# Altium schematic symbol library Base_Symbols.SchLib: 35 symbols
Pins are listed as number, name and electrical type; pins without a type are passive.

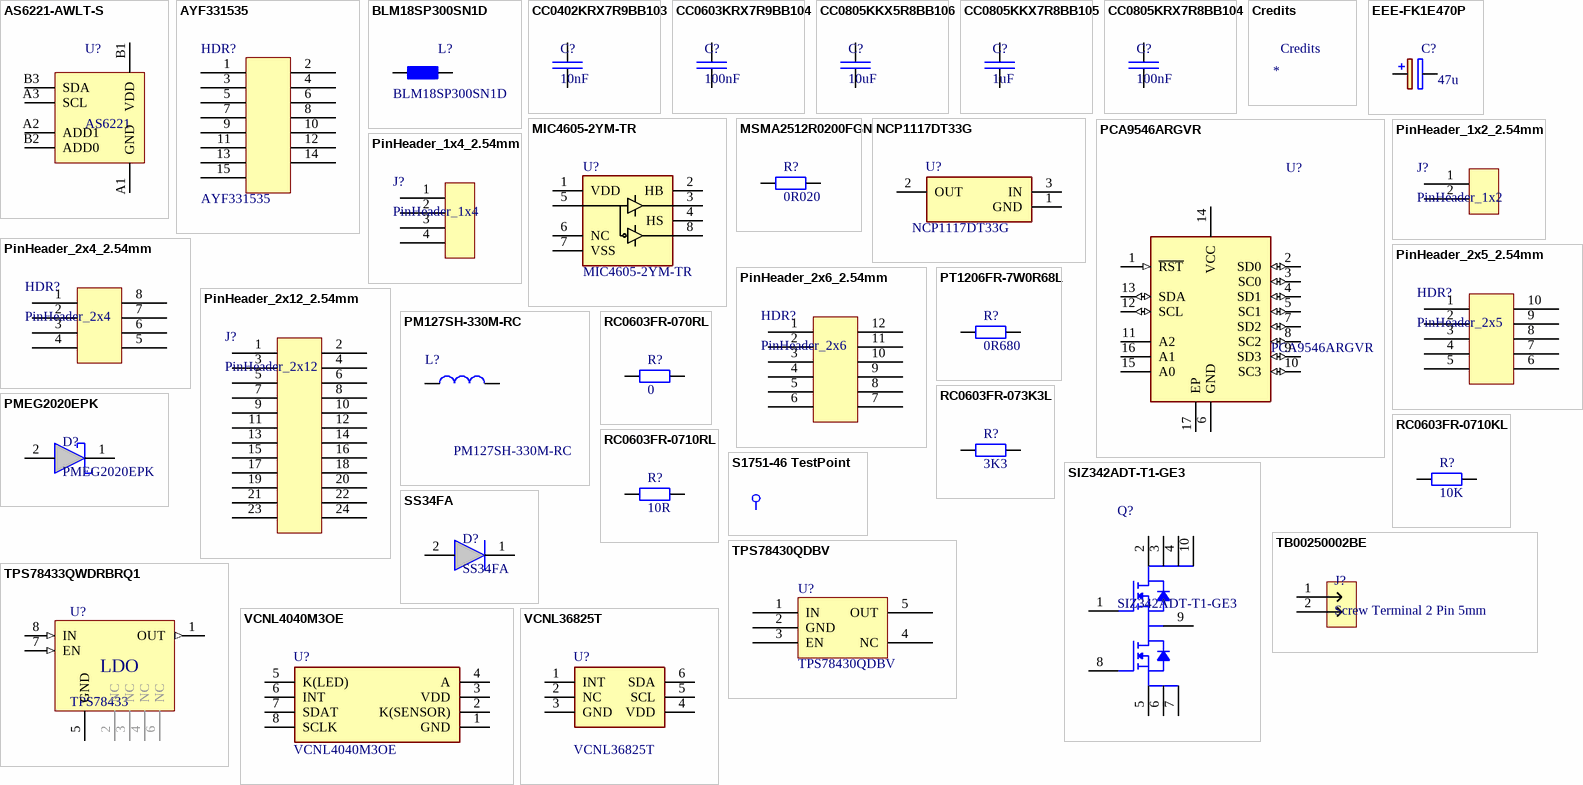
[diagram p0: symbols AS6221-AWLT-S to VCNL36825T]

## AS6221-AWLT-S
designator U?, comment AS6221
AS6221 Temperature Sensor Digital -40°C ~ 125°C 16b 6-WLCSP (1.5x1.03); Supplier 1: Mouser; Supplier Part Number 1: 985-AS6221-AWLT-S; Supplier 2: Digikey; Supplier Part Number 2: 4991-AS6221-AWLT-SCT-ND; Supplier 3: Arrow Electronics; Supplier Part Number 3: AS6221-AWLT-S; Supplier 4: Future Electronics; Supplier Part Number 4: 1136541; Supplier 5: Digikey; Supplier Part Number 5: 4991-AS6221-AWLT-SDKR-ND; Supplier 6: Digikey; Supplier Part Number 6: 4991-AS6221-AWLT-STR-ND; Supplier 7: Avnet; Supplier Part Number 7: Q65114A1149
footprint AS6221_BGA
footprint AS6221_BGA_LargePads (BGA, 6-Leads, Body 1.50x1.02mmx0.55mm, Pitch 0.40mm)
pins: A1 GND, A2 ADD1, A3 SCL, B1 VDD, B2 ADD0, B3 SDA

## AYF331535
designator HDR?
AYF331535 FFC & FPC-Steckverbinder CONNECTOR SURFACE MOUNT; Supplier 1: Mouser; Supplier Part Number 1: 769-AYF331535; Supplier 2: Digi-Key; Supplier Part Number 2: 255-3053-1-ND
footprint AYF331535 (AYF331535 FFC & FPC-Steckverbinder CONNECTOR SURFACE MOUNT)
footprint AYF331535 _Reverse
pins: 1, 2, 3, 4, 5, 6, 7, 8, 9, 10, 11, 12, 13, 14, 15

## BLM18SP300SN1D
designator L?
Ferrite Beads 0603 30ohm 10% 6A; Manufacturer_Name: Murata Electronics; Geometry.Height: 0.95mm; Mouser Part Number: 81-BLM18SP300SN1D; Mouser Price/Stock: https://www.mouser.co.uk/ProductDetail/Murata-Electronics/BLM18SP300SN1D?qs=W%2FMpXkg%252BdQ4o%252BOP%252B6m8FYA%3D%3D; Manufacturer_Part_Number: BLM18SP300SN1D; Datasheet Link: http://www.murata.com/~/media/webrenewal/support/library/catalog/products/emc/emifil/c31e.ashx?la=en-gb; Supplier 1: Digi-Key; Supplier Part Number 1: 490-BLM18SP300SN1DCT-ND; Supplier 2: Digi-Key; Supplier Part Number 2: 490-BLM18SP300SN1DDKR-ND; Supplier 3: Mouser; Supplier Part Number 3: 81-BLM18SP300SN1D
footprint Chip2PinSM127P600-8N
pins: 1, 2

## CC0402KRX7R9BB103
designator C?, comment 10nF
CAP 10nF SM0402 X7R 50V YAGEO CC2; Manufacturer Part Number: CC0603KRX7R9BB103; Tolerance (%): 10; Voltage Rating (Volts): 50; Category: Capacitor; Manufacturer: Yageo; Package: 0603; Value: 10nF; ComponentLink1URL: http://www.yageo.com; ComponentLink1Description: Manufacturer Website; Supplier 1: Farnell; Supplier Part Number 1: 3369167; Supplier 2: Mouser; Supplier Part Number 2: 603-CC402KRX7R9BB103; Supplier 3: DigiKey; Supplier Part Number 3: 311-1349-1-ND
footprint CAP_SM0402_YAGEOCC2_N (Capacitor, Yageo CC Class2, SM0402, IPC Medium Density)
pins: 1, 2

## CC0603KRX7R9BB104
designator C?, comment 100nF
CAP 100nF SM0603 X7R 50V YAGEO CC2; Manufacturer Part Number: CC0603KRX7R9BB104; Tolerance (%): 10; Voltage Rating (Volts): 50; Category: Capacitor; Manufacturer: Yageo; Package: 0603; Value: 100nF; ComponentLink1URL: http://www.yageo.com; ComponentLink1Description: Manufacturer Website; Supplier 1: Mouser; Supplier Part Number 1: 603-CC603KRX7R9BB104; Supplier 2: Future Electronics; Supplier Part Number 2: 3035896; Supplier 3: Future Electronics; Supplier Part Number 3: 9017302; Supplier 4: Arrow Electronics; Supplier Part Number 4: CC0603KRX7R9BB104; Supplier 5: Rs; Supplier Part Number 5: 6698767; Supplier 6: Avnet; Supplier Part Number 6: 68R4788; Supplier 7: Digikey; Supplier Part Number 7: 311-1344-1-ND; Supplier 8: Digikey; Supplier Part Number 8: 311-1344-6-ND
footprint CAP_SM0603_YAGEOCC2_N (Capacitor, Yageo CC Class2, SM0603, IPC Medium Density)
pins: 1, 2

## CC0805KKX5R8BB106
designator C?, comment 10uF
CAP 10uF SM0805 X5R 16V YAGEO CC2; Manufacturer Part Number: CC0805KKX7R8BB225; Tolerance (%): 10; Voltage Rating (Volts): 25; Category: Capacitor; Manufacturer: Yageo; Package: 0805; Value: 10uF; ComponentLink1URL: http://www.yageo.com; ComponentLink1Description: Manufacturer Website; Supplier 1: Rs; Supplier Part Number 1: 1988078; Supplier 2: Digikey; Supplier Part Number 2: 311-1869-1-ND; Supplier 3: Digikey; Supplier Part Number 3: 311-1869-6-ND; Supplier 4: Farnell; Supplier Part Number 4: 3369293; Supplier 5: Mouser; Supplier Part Number 5: 603-CC805KKX5R8BB106
footprint CAP_SM0805_YAGEOCC2_N (Capacitor, Yageo CC Class2, SM0805, IPC Medium Density)
pins: 1, 2

## CC0805KKX7R8BB105
designator C?, comment 1uF
CAP 1uF SM0805 X7R 25V YAGEO CC2; Manufacturer Part Number: CC0805KKX7R8BB105; Tolerance (%): 10; Voltage Rating (Volts): 25; Category: Capacitor; Manufacturer: Yageo; Package: 0805; Value: 1uF; ComponentLink1URL: http://www.yageo.com; ComponentLink1Description: Manufacturer Website; Supplier 1: Farnell; Supplier Part Number 1: 1458903; Supplier 2: Digikey; Supplier Part Number 2: 311-1456-1-ND; Supplier 3: Mouser; Supplier Part Number 3: 603-CC805KKX7R8BB105; Supplier 4: Future Electronics; Supplier Part Number 4: 7716954; Supplier 5: Arrow Electronics; Supplier Part Number 5: CC0805KKX7R8BB105; Supplier 6: Rs; Supplier Part Number 6: 1988104; Supplier 7: Digikey; Supplier Part Number 7: 311-1456-6-ND
footprint CAP_SM0805_YAGEOCC2_N (Capacitor, Yageo CC Class2, SM0805, IPC Medium Density)
pins: 1, 2

## CC0805KRX7R8BB104
designator C?, comment 100nF
CAP 100nF SM0805 X7R 25V YAGEO CC2; Manufacturer Part Number: CC0805KRX7R8BB104; Tolerance (%): 10; Voltage Rating (Volts): 25; Category: Capacitor; Manufacturer: Yageo; Package: 0805; Value: 100nF; ComponentLink1URL: http://www.yageo.com; ComponentLink1Description: Manufacturer Website; Supplier 1: Farnell; Supplier Part Number 1: 644249; Supplier 2: Digikey; Supplier Part Number 2: 311-1141-1-ND; Supplier 3: Mouser; Supplier Part Number 3: 603-CC805KRX7R8BB104; Supplier 4: Future Electronics; Supplier Part Number 4: 8768756; Supplier 5: Rs; Supplier Part Number 5: 1988138P; Supplier 6: Digikey; Supplier Part Number 6: 311-1141-6-ND; Supplier 7: Newark; Supplier Part Number 7: 08WX8799
footprint CAP_SM0805_YAGEOCC2_N (Capacitor, Yageo CC Class2, SM0805, IPC Medium Density)
pins: 1, 2

## Credits
designator Credit
footprint Credits
footprint Credits_Cu
footprint Credits_TO
footprint CREDITS_CU+TS
footprint CREDITS_CU+TS_SIGNED

## EEE-FK1E470P
designator C?, comment 47u
Aluminium Electrolytic Capacitors - SMD 47uF 25V; Value: 47u; Supplier 1: Mouser; Supplier Part Number 1: 667-EEE-FK1E470P; Supplier 2: Digi-Key; Supplier Part Number 2: PCE3804CT-ND; Supplier 3: Digi-Key; Supplier Part Number 3: PCE3804DKR-ND
footprint CAPAE7366X61N (Aluminum Electrolytic Capacitor, Body 6,60x6,60x6,10mm, IPC Medium Density)
pins: 1 +, 2 -

## MIC4605-2YM-TR
designator U?
Gate Drivers 85V Half Bridge MOSFET Driver; Manufacturer_Name: Microchip; Geometry.Height: 1.63mm; Mouser Part Number: 998-MIC4605-2YM-TR; Mouser Price/Stock: https://www.mouser.co.uk/ProductDetail/Microchip-Technology/MIC4605-2YM-TR?qs=U6T8BxXiZAVl8W1xjIUxZQ%3D%3D; Manufacturer_Part_Number: MIC4605-2YM-TR; Datasheet Link: http://www.microchip.com/mymicrochip/filehandler.aspx?ddocname=en579235; Supplier 1: Arrow Electronics; Supplier Part Number 1: MIC4605-2YM-TR; Supplier 2: Digi-Key; Supplier Part Number 2: 576-4463-1-ND; Supplier 3: Digi-Key; Supplier Part Number 3: 576-4463-6-ND; Supplier 4: Mouser; Supplier Part Number 4: 998-MIC4605-2YM-TR
footprint SOIC127P600X163-8N
pins: 1 VDD, 2 HB, 3 HO, 4 HS, 5 PWM, 6 NC, 7 VSS, 8 LO

## MSMA2512R0200FGN
designator R?, comment 0R020
RES SM0603YAGEO RC_L; Value: 0R020; Supplier 1: Digi-Key; Supplier Part Number 1: 283-MSMA2512R0200FGNCT-ND; Supplier 2: Digi-Key; Supplier Part Number 2: 283-MSMA2512R0200FGNDKR-ND; Supplier 3: Mouser; Supplier Part Number 3: 504-MSMA2512R0200FGN
footprint MSMA2512R0200FGN (Footprint not found)
pins: 1, 2

## NCP1117DT33G
designator U?
Linear Voltage Regulator IC Positive Fixed 1 Output 1A DPAK; Manufacturer_Name: onsemi; Geometry.Height: 2.51mm; Mouser Part Number: 863-NCP1117DT33G; Mouser Price/Stock: https://www.mouser.co.uk/ProductDetail/onsemi/NCP1117DT33G?qs=Gev%252BmEvV0ib8cFCgG6Q0fQ%3D%3D; Manufacturer_Part_Number: NCP1117DT33G; Datasheet Link: https://www.onsemi.com/pdf/datasheet/ncp1117-d.pdf; Supplier 1: Mouser; Supplier Part Number 1: 863-NCP1117DT33G; Supplier 2: Digi-Key; Supplier Part Number 2: NCP1117DT33GOS-ND
footprint NCP1117DT33G
pins: 1 GND, 2 OUT, 3 IN

## PCA9546ARGVR
designator U?
4-Channel I2C And SMBus Switch With Reset Functions; Manufacturer_Name: Texas Instruments; Geometry.Height: 1mm; Mouser Part Number: 595-PCA9546ARGVR; Mouser Price/Stock: https://www.mouser.co.uk/ProductDetail/Texas-Instruments/PCA9546ARGVR?qs=iSMark9AYDVOIxSBd0ujBA%3D%3D; Manufacturer_Part_Number: PCA9546ARGVR; Datasheet Link: http://www.ti.com/lit/gpn/pca9546a; Supplier 1: Mouser; Supplier Part Number 1: 595-PCA9546ARGVR; Supplier 2: Digi-Key; Supplier Part Number 2: 296-21771-1-ND; Supplier 3: Digi-Key; Supplier Part Number 3: 296-21771-6-ND
footprint QFN65P400X400X100-17N-D
pins: 1 ~{RST} (in), 2 SD0 (io), 3 SC0 (io), 4 SD1 (io), 5 SC1 (io), 6 GND, 7 SD2 (io), 8 SC2 (io), 9 SD3 (io), 10 SC3 (io), 11 A2, 12 SCL (io), 13 SDA (io), 14 VCC, 15 A0, 16 A1, 17 EP

## PinHeader_1x2_2.54mm
designator J?, comment PinHeader_1x2
PinHeader_1x2 2.54mm Pitch
footprint PinHeader_1x2_2.54mm
pins: 1, 2

## PinHeader_1x4_2.54mm
designator J?, comment PinHeader_1x4
PinHeader_1x4 2.54mm Pitch
footprint PinHeader_1x4_2.54mm (Footprint not found)
pins: 1, 2, 3, 4

## PinHeader_2x4_2.54mm
designator HDR?, comment PinHeader_2x4
PinHeader_2x4 2.54mm Pitch
footprint PinHeader_2x4_2.54mm (Footprint not found)
pins: 1, 2, 3, 4, 5, 6, 7, 8

## PinHeader_2x5_2.54mm
designator HDR?, comment PinHeader_2x5
PinHeader_2x5 2.54mm Pitch
footprint PinHeader_2x5_2.54mm (Footprint not found)
pins: 1, 2, 3, 4, 5, 6, 7, 8, 9, 10

## PinHeader_2x6_2.54mm
designator HDR?, comment PinHeader_2x6
PinHeader_2x6 2.54mm Pitch
footprint PinHeader_2x6_2.54mm (Footprint not found)
pins: 1, 2, 3, 4, 5, 6, 7, 8, 9, 10, 11, 12

## PinHeader_2x12_2.54mm
designator J?, comment PinHeader_2x12
PinHeader_2x12 2.54mm Pitch
footprint PinHeader_2x12_2.54mm
pins: 1, 2, 3, 4, 5, 6, 7, 8, 9, 10, 11, 12, 13, 14, 15, 16, 17, 18, 19, 20, 21, 22, 23, 24

## PM127SH-330M-RC
designator L?
Bourns PM127SH Series Shielded Wire-wound SMD Inductor with a Ferrite Core, 33 uH +/-20% Wire-Wound 3.5A Idc Q:28; Geometry.Height: 8mm; Mouser Part Number: 542-PM127SH-330M-RC; Mouser Price/Stock: https://www.mouser.co.uk/ProductDetail/Bourns/PM127SH-330M-RC?qs=eR5JJ6cMb%252Bbm7NbWn3468w%3D%3D; Manufacturer_Name: Bourns; Manufacturer_Part_Number: PM127SH-330M-RC; Datasheet Link: https://www.bourns.com/docs/Product-Datasheets/pm127sh_series.pdf; Supplier 1: Digi-Key; Supplier Part Number 1: PM127SH-330M-RCCT-ND; Supplier 2: Digi-Key; Supplier Part Number 2: PM127SH-330M-RCDKR-ND; Supplier 3: Mouser; Supplier Part Number 3: 542-PM127SH-330M-RC
footprint PM127SH330MRC
pins: 1, 2

## PMEG2020EPK
designator D?
PMEG2020EPK 20 V, 2 A low VF MEGA Schottky barrier rectifier; Supplier 1: Digikey; Supplier Part Number 1: 1727-1338-1-ND; Supplier 2: Digikey; Supplier Part Number 2: 1727-1338-6-ND; Supplier 3: Farnell; Supplier Part Number 3: 2191802; Supplier 4: Mouser; Supplier Part Number 4: 771-PMEG2020EPK,315; Supplier 5: LCSC; Supplier Part Number 5: C552841
footprint PMEG2020EPK (Footprint not found)
pins: 1 Cathode, 2 Anode

## PT1206FR-7W0R68L
designator R?, comment 0R680
RES 0R680 SM1206 YAGEO 500mW; Manufacturer Part Number: RC0603FR-07150RL; Power (Watts): 0.1; Resistance (Ohms): 150; Tolerance (%): 1; Category: Resistor; Manufacturer: Yageo; Package: 0603; Value: 0R680; ComponentLink1URL: http://www.yageo.com; ComponentLink1Description: Manufacturer Website; Supplier 1: Digi-Key; Supplier Part Number 1: 13-PT1206FR-7W0R68LDKR-ND; Supplier 2: Digi-Key; Supplier Part Number 2: 13-PT1206FR-7W0R68LCT-ND; Supplier 3: Mouser; Supplier Part Number 3: 603-PT1206FR-7W0R68L
footprint PT1206FR
pins: 1, 2

## RC0603FR-070RL
designator R?, comment 0
RES 0R SM0603 YAGEO RC_L; Manufacturer Part Number: RC0603FR-0710KL; Power (Watts): 0.1; Resistance (Ohms): 10000; Tolerance (%): 1; Category: Resistor; Manufacturer: Yageo; Package: 0603; Value: 0; ComponentLink1URL: http://www.yageo.com; ComponentLink1Description: Manufacturer Website; Supplier 1: Digikey; Supplier Part Number 1: 311-0.0HRCT-ND; Supplier 2: Digikey; Supplier Part Number 2: 311-0.0HRDKR-ND; Supplier 3: Farnell; Supplier Part Number 3: 2309106; Supplier 4: Mouser; Supplier Part Number 4: 603-RC0603FR-070RL; Supplier 5: Newark; Supplier Part Number 5: 50Y7761
footprint RES_SM0603_YAGEORC_N (Resistor, Yageo RC_L, SM0603, IPC Medium Density)
pins: 1, 2

## RC0603FR-073K3L
designator R?, comment 3K3
RES 3K3 SM0603 YAGEO RC_L; Manufacturer Part Number: RC0603FR-0710KL; Power (Watts): 0.1; Resistance (Ohms): 10000; Tolerance (%): 1; Category: Resistor; Manufacturer: Yageo; Package: 0603; Value: 3K3; ComponentLink1URL: http://www.yageo.com; ComponentLink1Description: Manufacturer Website; Supplier 1: Rs; Supplier Part Number 1: 1995564; Supplier 2: Farnell; Supplier Part Number 2: 9238549; Supplier 3: Digikey; Supplier Part Number 3: 311-3.30KHRCT-ND; Supplier 4: Digikey; Supplier Part Number 4: 311-3.30KHRDKR-ND; Supplier 5: Mouser; Supplier Part Number 5: 603-RC0603FR-073K3L; Supplier 6: Newark; Supplier Part Number 6: 98K7393
footprint RES_SM0603_YAGEORC_N (Resistor, Yageo RC_L, SM0603, IPC Medium Density)
pins: 1, 2

## RC0603FR-0710KL
designator R?, comment 10K
RES 10K SM0603 YAGEO RC_L; Manufacturer Part Number: RC0603FR-0710KL; Power (Watts): 0.1; Resistance (Ohms): 10000; Tolerance (%): 1; Category: Resistor; Manufacturer: Yageo; Package: 0603; Value: 10K; ComponentLink1URL: http://www.yageo.com; ComponentLink1Description: Manufacturer Website; Supplier 1: Farnell; Supplier Part Number 1: 9238603; Supplier 2: Future Electronics; Supplier Part Number 2: 3349388; Supplier 3: Rs; Supplier Part Number 3: 1995443; Supplier 4: Digikey; Supplier Part Number 4: 311-10.0KHRCT-ND; Supplier 5: Digikey; Supplier Part Number 5: 311-10.0KHRDKR-ND; Supplier 6: Mouser; Supplier Part Number 6: 603-RC0603FR-0710KL; Supplier 7: Newark; Supplier Part Number 7: 98K7338
footprint RES_SM0603_YAGEORC_N (Resistor, Yageo RC_L, SM0603, IPC Medium Density)
pins: 1, 2

## RC0603FR-0710RL
designator R?, comment 10R
RES 10R SM0603 YAGEO RC_L; Manufacturer Part Number: RC0603FR-0710RL; Power (Watts): 0.1; Resistance (Ohms): 10; Tolerance (%): 1; Category: Resistor; Manufacturer: Yageo; Package: 0603; Value: 10R; Supplier Part Number 1: 9238247; Supplier 1: Farnell; ComponentLink1URL: http://www.yageo.com; ComponentLink1Description: Manufacturer Website; Supplier 2: Digi-Key; Supplier Part Number 2: 311-10.0HRCT-ND
footprint RES_SM0603_YAGEORC_N (Resistor, Yageo RC_L, SM0603, IPC Medium Density)
pins: 1, 2

## S1751-46 TestPoint
designator J?  (value not drawn)
S1751-46 SMT TestPoint 3.25x1.65; Supplier 1: Rs; Supplier Part Number 1: 1613604; Supplier 2: Rs; Supplier Part Number 2: 1613705; Supplier 3: Digikey; Supplier Part Number 3: 952-3024-ND; Supplier 4: Mouser; Supplier Part Number 4: 855-S1751-46
footprint S1751-46 TestPoint
pins: 1

## SIZ342ADT-T1-GE3
designator Q?
MOSFET 30V Vds 20V Vgs PowerPAIR 3 x 3; Manufacturer_Name: Vishay Semiconductors; Geometry.Height: 0.8mm; Mouser Part Number: 78-SIZ342ADT-T1-GE3; Manufacturer_Part_Number: SIZ342ADT-T1-GE3; Datasheet Link: https://www.vishay.com/doc?76711; Supplier 1: Mouser; Supplier Part Number 1: 78-SIZ342ADT-T1-GE3
footprint SIZ342ADT-T1-GE3
pins: 1 G1, 2 D, 3 D, 4 D, 5 D, 6 D, 7 D, 8 G2, 9 D, 10 D

## SS34FA
designator D?
SS34FA Schottky Barrier Rectifiers, Surface Mount, 3 A, 40 V; Supplier 1: Digi-Key; Supplier Part Number 1: SS34FACT-ND; Supplier 2: Digi-Key; Supplier Part Number 2: SS34FADKR-ND; Supplier 3: Mouser; Supplier Part Number 3: 512-SS34FA
footprint SS34FA (SS34FA Molded Diode, 2-Leads, Body 2,80x1,80mm, IPC Medium Density)
pins: 1 Cathode, 2 Anode

## TB00250002BE
designator J?, comment Screw Terminal 2 Pin 5mm
Fixed Terminal Blocks Terminal block, screw type, 5.00, horizontal, 2 poles, CUI Blue, slotted screw, PCB mount; Supplier 1: Arrow Electronics; Supplier Part Number 1: TB002-500-02BE
footprint TB00250002BE
pins: 1, 2

## TPS78430QDBV
designator U?
TPS78430QDBV LDO 3.0V 300mA
footprint TPS784XXXQDBVRQ1_SOT23 (SOT23, 5-Leads, Body 2,90x2,80mm, Pitch 0,95mm, IPC Medium Density)
pins: 1 IN, 2 GND, 3 EN, 4 NC, 5 OUT

## TPS78433QWDRBRQ1
designator U?, comment TPS78433
TPS78433-Q1 3.3V, 300-mA, High-PSRR Low-Dropout Voltage Regulator With High Accuracy and Enable,  8-SON (3x3); Supplier 1: Mouser; Supplier Part Number 1: 595-TPS78433QWDRBRQ1; Supplier 2: Digikey; Supplier Part Number 2: 296-TPS78433QWDRBRQ1CT-ND; Supplier 3: Texas Instruments; Supplier Part Number 3: TPS78433QWDRBRQ1; Supplier 4: Digikey; Supplier Part Number 4: 296-TPS78433QWDRBRQ1DKR-ND; Supplier 5: Digikey; Supplier Part Number 5: 296-TPS78433QWDRBRQ1TR-ND; Supplier 6: LCSC; Supplier Part Number 6: C3747465
footprint TPS784xxxQDRBRQ1_SON (SON127P600-8N)
pins: 1 OUT (out), 2 NC, 3 NC, 4 NC, 5 GND, 6 NC, 7 EN (in), 8 IN (in)
text: LDO

## VCNL4040M3OE
designator U?
Fully Integrated Proximity and Ambient Light Sensor with Infrared Emitter, I2C Interface, and Interrupt Function; Manufacturer_Name: Vishay; Geometry.Height: 1.15mm; Mouser Part Number: 78-VCNL4040M3OE; Mouser Price/Stock: https://www.mouser.co.uk/ProductDetail/Vishay-Semiconductors/VCNL4040M3OE?qs=p1ya7m3AA0C%252Buyxak4%252Bv6g%3D%3D; Manufacturer_Part_Number: VCNL4040M3OE; Datasheet Link: http://www.vishay.com/docs/84274/vcnl4040.pdf; Supplier 1: Mouser; Supplier Part Number 1: 78-VCNL4040M3OE; Supplier 2: Digi-Key; Supplier Part Number 2: VCNL4040M3OECT-ND; Supplier 3: Digi-Key; Supplier Part Number 3: VCNL4040M3OEDKR-ND
footprint VCNL4040M3OE
pins: 1 GND, 2 K(SENSOR), 3 VDD, 4 A, 5 K(LED), 6 INT, 7 SDAT, 8 SCLK

## VCNL36825T
designator U?
Proximity Sensors PROX SENS INTER VCSEL I2C-E4, IC SENSORS; Manufacturer_Name: Vishay; Geometry.Height: 0.6mm; Mouser Part Number: 78-VCNL36825T; Mouser Price/Stock: https://www.mouser.co.uk/ProductDetail/Vishay-Semiconductors/VCNL36825T?qs=pUKx8fyJudAlmgCr9cmOAQ%3D%3D; Manufacturer_Part_Number: VCNL36825T; Datasheet Link: https://www.vishay.com/docs/80235/vcnl36825t.pdf; Supplier 1: Mouser; Supplier Part Number 1: 78-VCNL36825T; Supplier 2: Digi-Key; Supplier Part Number 2: 751-VCNL36825TCT-ND; Supplier 3: Digi-Key; Supplier Part Number 3: 751-VCNL36825TDKR-ND
footprint VCNL36825T
pins: 1 INT, 2 NC, 3 GND, 4 VDD, 5 SCL, 6 SDA